# Altium schematic symbol library sensor.SchLib: 15 symbols
Pins are listed as number, name and electrical type; pins without a type are passive.

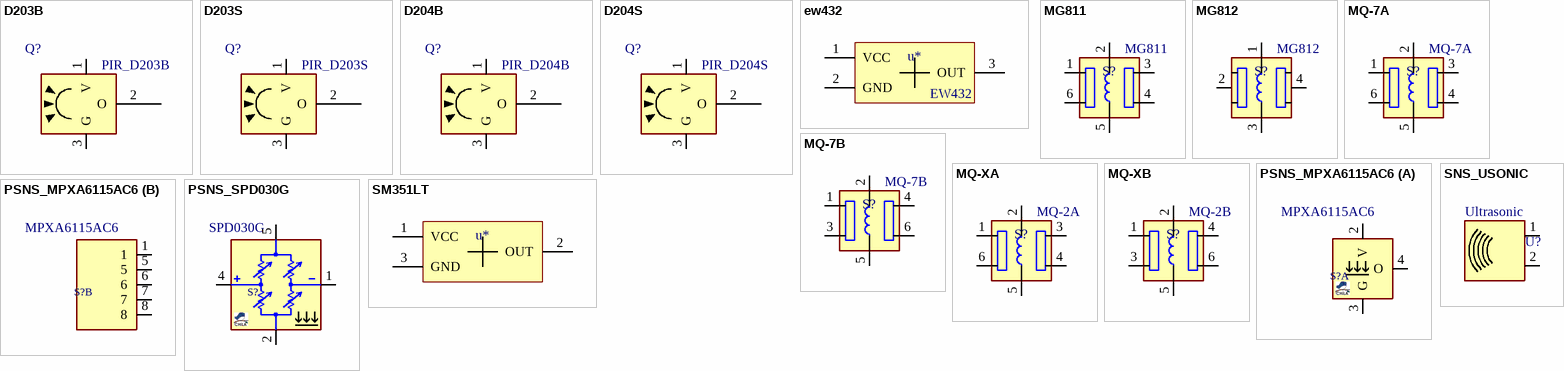
[diagram p0: symbols D203B to SNS_USONIC]

## D203B
designator Q?, comment PIR_D203B
Sensor, Pyroelectric Infrared Radial; MANF: PIR; MANF_P#: D203B; VALUE: PIR_D203B
footprint PIR_3 (Footprint not found)
pins: 1 V "Drain", 2 O "Source", 3 G "Ground"

## D203S
designator Q?, comment PIR_D203S
Sensor, Pyroelectric Infrared Radial; MANF: PIR; MANF_P#: D203S; VALUE: PIR_D203S
footprint PIR_3 (Footprint not found)
pins: 1 V "Drain", 2 O "Source", 3 G "Ground"

## D204B
designator Q?, comment PIR_D204B
Sensor, Pyroelectric Infrared Radial; MANF: PIR; MANF_P#: D204B; VALUE: PIR_D204B
footprint PIR_3 (Footprint not found)
pins: 1 V "Drain", 2 O "Source", 3 G "Ground"

## D204S
designator Q?, comment PIR_D204S
Sensor, Pyroelectric Infrared Radial; MANF: PIR; MANF_P#: D204S; VALUE: PIR_D204S
footprint PIR_3 (Footprint not found)
pins: 1 V "Drain", 2 O "Source", 3 G "Ground"

## ew432
designator u*
footprint ew432-SOT
pins: 1 VCC, 2 GND, 3 OUT
text: EW432

## MG811
designator S?
SENSOR, GAS, CO2; MANF: Winsen; MANF_P#: MG-811; PARAM2: 5VH, -20~50oC; PARAM: 450mW, 60Ohm; PRICE: PRICE; VALUE: MG811
footprint MQXA (Sensor GAS, 19mm Diameter)
pins: 1 A1, 2 H1, 3 B1, 4 B2, 5 H2, 6 A2

## MG812
designator S?
SENSOR, GAS, CO2; MANF: Winsen; MANF_P#: MG-812; PARAM2: 5VH, -20~50oC; PARAM: 450mW, 60Ohm; PRICE: PRICE; VALUE: MG812
footprint MQXA (Sensor GAS, 19mm Diameter)
pins: 1 H1, 2 A1, 3 H2, 4 B1

## MQ-7A
designator S?
SENSOR, GAS; MANF: HANWEI; PRICE: PRICE; MANF_P#: MQ-7A; VALUE: MQ-7A
footprint MQ7A (Sensor GAS, 23.8mm Diameter)
pins: 1 A1, 2 H1, 3 B1, 4 B2, 5 H2, 6 A2

## MQ-7B
designator S?
SENSOR, GAS; MANF: HANWEI; PRICE: PRICE; MANF_P#: MQ-7B; VALUE: MQ-7B
footprint MQ7B (Sensor GAS, 17.8mm Diameter)
pins: 1 A1, 2 H1, 3 A2, 4 B1, 5 H2, 6 B2

## MQ-XA
designator S?, comment MQ-2A
SENSOR, GAS; MANF: HANWEI; ALT: MQ-2, MQ-3, MQ-4, MQ-6, MQ-8, MQ-9; PRICE: PRICE; MANF_P#: MQ-2A; VALUE: MQ-2A
footprint MQXA (Sensor GAS, 19mm Diameter)
pins: 1 A1, 2 H1, 3 B1, 4 B2, 5 H2, 6 A2

## MQ-XB
designator S?, comment MQ-2B
SENSOR, GAS; MANF: HANWEI; ALT: MQ-2, MQ-3, MQ-4, MQ-6, MQ-8, MQ-9; PRICE: PRICE; MANF_P#: MQ-2B; VALUE: MQ-2B
footprint MQXB (Sensor GAS, 16.8mm Diameter)
pins: 1 A1, 2 H1, 3 A2, 4 B1, 5 H2, 6 B2

## PSNS_MPXA6115AC6
designator S?, comment MPXA6115AC6
Sensor, pressure; MANF_P#: MPXA6115AC6; VALUE: MPXA6115AC6
footprint PSNS_MPXA6115A6 (MPXA6115A6)
pins on every part: 1 hidden, 5 hidden, 6 hidden, 7 hidden, 8 hidden
part A pins: 2 V, 3 G, 4 O
part B pins: 1, 5, 6, 7, 8

## PSNS_SPD030G
designator S?, comment SPD030G
Sensor, pressure; MANF: SMARTEC; MANF_P#: SPD030G; PRICE: 46000toman@PAYA; VALUE: SPD030G
footprint PSNS_SPD030G (Pressure Sensor, SPD030G)
pins: 1 hidden, 1 O-, 2 EX2, 4 O+, 5 hidden, 5 EX, 6 hidden, 7 hidden, 8 hidden

## SM351LT
designator u*
footprint SOT23_3 (SOT-23, Micro3, MO-178, TO-236AB, MO-193C, SuperSOT3, SC-59, 1.5x3mm, Pitch 1.9mm)
pins: 1 VCC, 2 OUT, 3 GND

## SNS_USONIC
designator U?, comment Ultrasonic
Sensor, Ultrasonic; MANF_P#: 400PT160; PARAM: 40KHz; PRICE: 1200~3600toman@JAVAN; VALUE: Ultrasonic
footprint USONICS (Footprint not found)
footprint USONICS_SMD (Footprint not found)
pins: 1, 2